# Altium footprint library RA0805(4D02)M.PcbLib: 1 footprints
Each footprint in its own frame and in the unit in brackets; x right, y up, seen from the top. Pads: shape width x height; smd on the part's side, far side on the other; paste and mask are expansions set on the pad; w line width, h text height; cw(c..) or ccw(c..) is an arc to the next point about the centre after c.
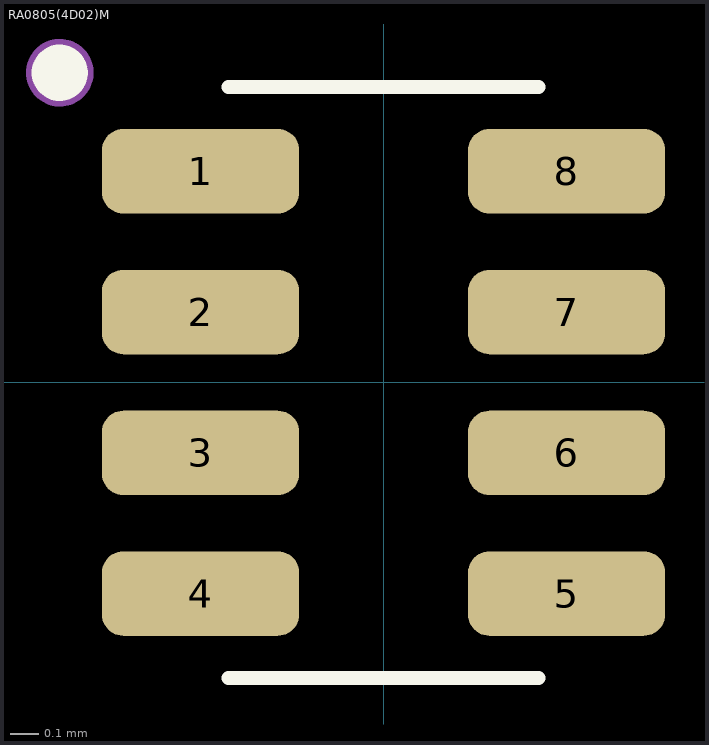
[diagram p0: the footprint, top view; thin cyan lines are the x and y axes]

## RA0805(4D02)M [mm] "Chip Array, Flat, 8-Leads, Pitch 0.50mm,  Body 2.00x1.00mm,  IPC Medium Density"
height 0.45
pads (8):
  rrect50% 0.7x0.3 smd: 1(-0.65,0.75) 2(-0.65,0.25) 3(-0.65,-0.25) 4(-0.65,-0.75) 5(0.65,-0.75) 6(0.65,-0.25) 7(0.65,0.25) 8(0.65,0.75)
Top Overlay:
  circle w0.1: c-1.15,1.1 r0.05
  lines w0.05: -0.55,-1.05 0.55,-1.05 ; -0.55,1.05 0.55,1.05
Assembly Top:
  circle w0.12: c-1.15,1.1 r0.06
3D body "RA 741C083 (2x1mm).STEP": height 0.35, standoff -0.03, extent -0.502,-1 0.502,1